# EAGLE library part DAC10 (library lcs-2000)
Analog Devices DAC10GS (SOIC-18) 10-bit D/A converter.
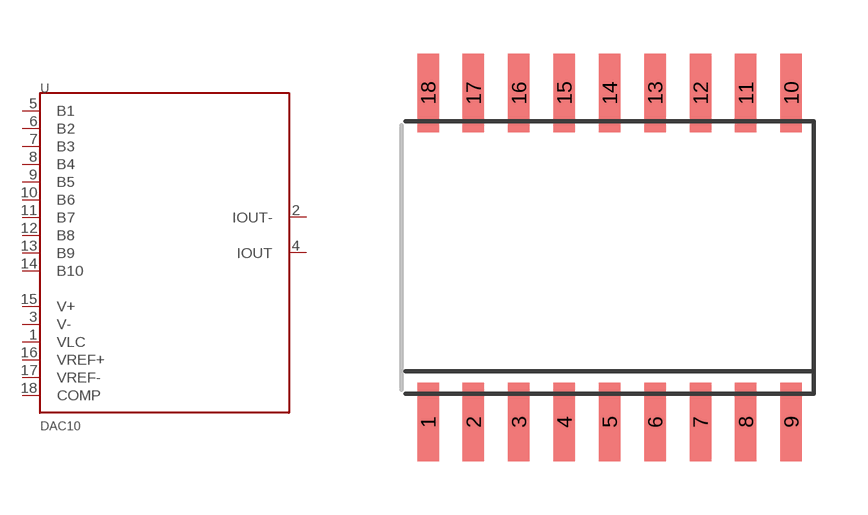
[diagram p1: symbol with the pads of SOIC-18; footprint SOIC-18]

Designator prefix U

## DAC10  [SOIC-18]
1  VLC
2  IOUT-
3  V-
4  IOUT
5  B1
6  B2
7  B3
8  B4
9  B5
10  B6
11  B7
12  B8
13  B9
14  B10
15  V+
16  VREF+
17  VREF-
18  COMP

## Footprint SOIC-18 (pad centres in mm)
smd 0.6 x 2.2: 1 -5.715,-4.6; 2 -4.445,-4.6; 3 -3.175,-4.6; 4 -1.905,-4.6; 5 -0.635,-4.6; 6 0.635,-4.6; 7 1.905,-4.6; 8 3.175,-4.6; 9 4.445,-4.6; 10 4.445,4.6; 11 3.175,4.6; 12 1.905,4.6; 13 0.635,4.6; 14 -0.635,4.6; 15 -1.905,4.6; 16 -3.175,4.6; 17 -4.445,4.6; 18 -5.715,4.6